# Altium schematic symbol library Mechanicals.SchLib: 6 symbols
Pins are listed as number, name and electrical type; pins without a type are passive.

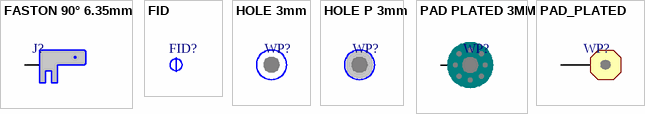
[diagram p0: symbols FASTON 90° 6.35mm to PAD_PLATED]

## FASTON 90° 6.35mm
designator J?
CONN TAB FASTON R/A PCB TIN
pins: 1

## FID
designator FID?
Component Placement Reference

## HOLE 3mm
designator WP?
HOLE 3mm

## HOLE P 3mm
designator WP?
HOLE PLATED 3mm

## PAD PLATED 3MM
designator WP?
PAD PLATED 3MM
pins: 1

## PAD_PLATED
designator WP?
PAD PLATED
pins: 1